# Altium footprint library AB0014.01.A.1.PcbLib: 1 footprints
Each footprint in its own frame and in the unit in brackets; x right, y up, seen from the top. Pads: shape width x height; smd on the part's side, far side on the other; paste and mask are expansions set on the pad; w line width, h text height; cw(c..) or ccw(c..) is an arc to the next point about the centre after c.
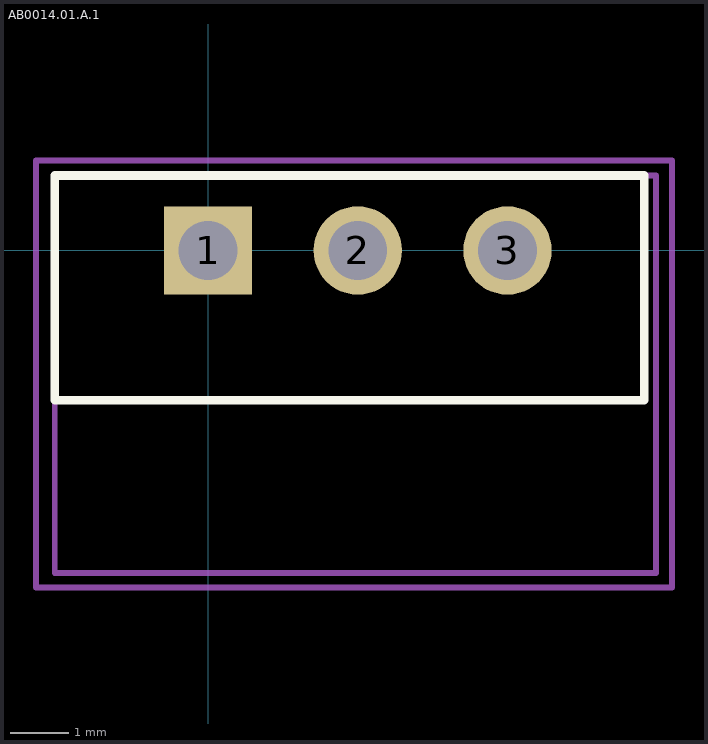
[diagram p0: the footprint, top view; thin cyan lines are the x and y axes]

## AB0014.01.A.1 [mm]
height 1.2
pads (3):
  rect 1.5x1.5 hole 1: 1(0,0)
  round 1.5 hole 1: 2(2.54,0) 3(5.08,0)
Top Overlay:
  lines w0.15: -2.6,-2.54 7.4,-2.54 7.4,1.27 -2.6,1.27 -2.6,-2.54
Mechanical 13:
  lines w0.1: -2.6,-5.471 7.6,-5.471 7.6,1.27 -2.6,1.27 -2.6,-5.471
Mechanical 15:
  lines w0.1: -2.921,-5.715 7.874,-5.715 7.874,1.524 -2.921,1.524 -2.921,-5.715
3D body: height 15.32, standoff -5.75, extent -2.6,-5.471 7.6,1.27